# EAGLE library part MP1584EN-LF-Z (library MP1584EN-LF-Z)
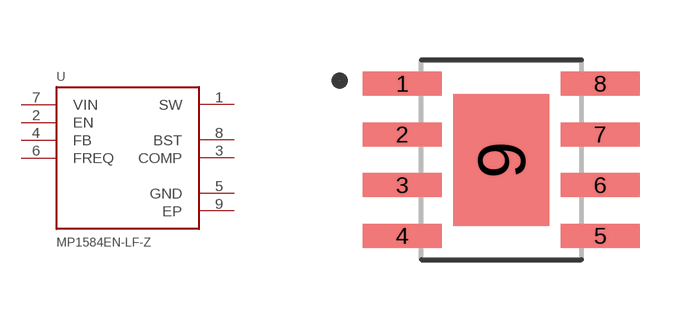
[diagram p0: symbol with the pads of SOIC127P600X170-9N; footprint SOIC127P600X170-9N]

Designator prefix U

## MP1584EN-LF-Z (MANUFACTURER: Monolithic Power Systems; PACKAGE: SOIC-8; PRICE: 2.72 USD; STANDARD: IPC-7351B)  [SOIC127P600X170-9N]
1  SW  out
2  EN  in
3  COMP  pas
4  FB  in
5  GND  pwr
6  FREQ  pas
7  VIN  in
8  BST  pas
9  EP  pwr

## Footprint SOIC127P600X170-9N (pad centres in mm)
smd 1.97 x 0.6: 1 -2.475,1.905; 2 -2.475,0.635; 3 -2.475,-0.635; 4 -2.475,-1.905; 5 2.475,-1.905; 6 2.475,-0.635; 7 2.475,0.635; 8 2.475,1.905
smd 2.41 x 3.3: 9 0,0